# Altium schematic symbol library WH1602L.SchLib: 1 symbol
Pins are listed as number, name and electrical type; pins without a type are passive.

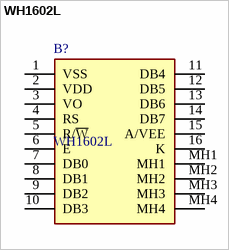
[diagram p0: symbol WH1602L]

## WH1602L
designator B?
(16 characters x 2 lines, transflective, positive FSTN, white background, black characters); Manufacturer_Name: Winstar; Geometry.Height: 13.6mm; Manufacturer_Part_Number: WH1602L; Mouser Part Number: *; Mouser Price/Stock: *; Arrow Part Number: *; Arrow Price/Stock: *; Datasheet Link: https://datasheet.datasheetarchive.com/originals/distributors/Datasheets-314/304334.pdf
footprint WH1602L
pins: 1 VSS, 2 VDD, 3 VO, 4 RS, 5 R/~{W}, 6 E, 7 DB0, 8 DB1, 9 DB2, 10 DB3, 11 DB4, 12 DB5, 13 DB6, 14 DB7, 15 A/VEE, 16 K, MH1, MH2, MH3, MH4